# Altium footprint library IC_BQ51050BRHLR.PcbLib: 1 footprints
Each footprint in its own frame and in the unit in brackets; x right, y up, seen from the top. Pads: shape width x height; smd on the part's side, far side on the other; paste and mask are expansions set on the pad; w line width, h text height; cw(c..) or ccw(c..) is an arc to the next point about the centre after c.
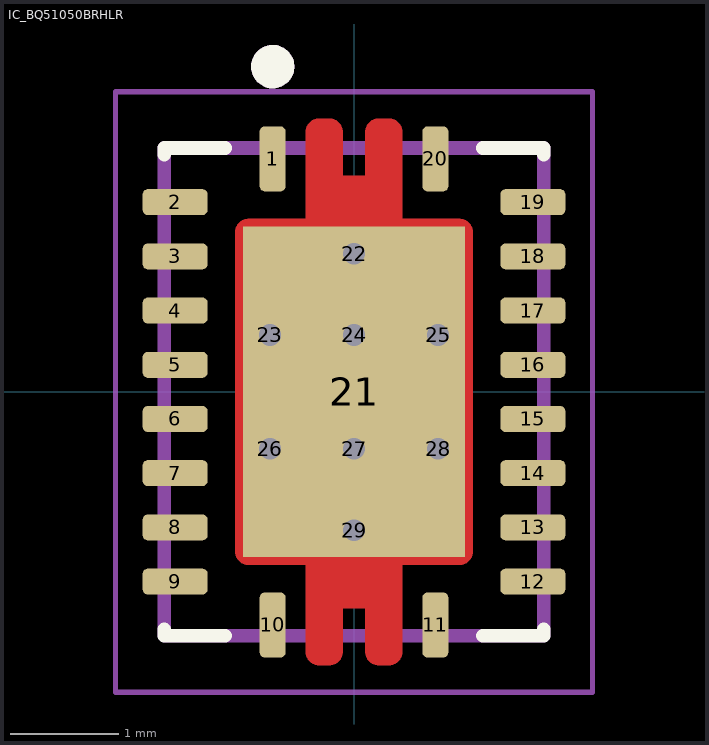
[diagram p0: the footprint, top view; thin cyan lines are the x and y axes]

## IC_BQ51050BRHLR [mm]
pads (29):
  rrect40% 0.24x0.6 smd: 1(-0.75,2.15) 10(-0.75,-2.15) 11(0.75,-2.15) 20(0.75,2.15)
  rrect40% 0.6x0.24 smd: 2(-1.65,1.75) 3(-1.65,1.25) 4(-1.65,0.75) 5(-1.65,0.25) 6(-1.65,-0.25) 7(-1.65,-0.75) 8(-1.65,-1.25) 9(-1.65,-1.75) 12(1.65,-1.75) 13(1.65,-1.25) 14(1.65,-0.75) 15(1.65,-0.25) 16(1.65,0.25) 17(1.65,0.75) 18(1.65,1.25) 19(1.65,1.75)
  rect 2.05x3.05 smd paste-3 mask+0: 21(0,0)
  round 0.3 hole 0.2 mask+0: 22(0,1.275) 23(-0.775,0.525) 24(0,0.525) 25(0.775,0.525) 26(-0.775,-0.525) 27(0,-0.525) 28(0.775,-0.525) 29(0,-1.275)
Top Layer:
  region: 380 vertices and 0 holes, not listed, extent -1.095,-2.52 1.095,2.52
Top Overlay:
  circle w0.2: c-0.75,3 r0.1
  lines w0.127: -1.75,-2.19 -1.75,-2.25 -1.19,-2.25 ; -1.75,2.19 -1.75,2.25 -1.19,2.25 ; 1.19,-2.25 1.75,-2.25 1.75,-2.19 ; 1.19,2.25 1.75,2.25 1.75,2.19
Top Paste:
  drawing of 8 lines, arcs and shapes, not listed
Top Solder:
  drawing of 1 lines, arcs and shapes, not listed
Mechanical 13:
  circle w0.2: c-0.75,3 r0.1
  lines w0.127: -1.75,-2.25 1.75,-2.25 1.75,2.25 -1.75,2.25 -1.75,-2.25
Mechanical 15:
  lines w0.05: -2.2,-2.77 -2.2,2.77 2.2,2.77 2.2,-2.77 -2.2,-2.77
3D body "step_temp.STEP": height 1, standoff 0, extent -1.75,-2.25 1.75,2.25